# EAGLE library part SLIDER (library SLIDER)
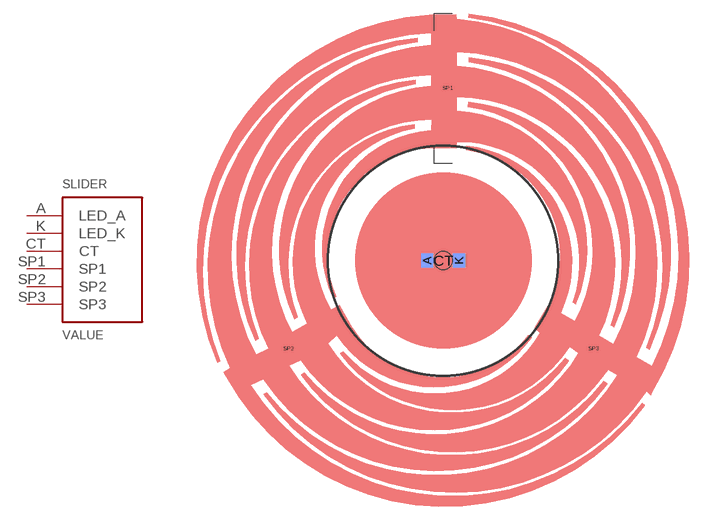
[diagram p0: symbol with the pads of SLIDER; footprint SLIDER]

Designator prefix SL

## SLIDER  [SLIDER]
A  LED_A  pwr
CT  CT
K  LED_K  pwr
SP1  SP1
SP2  SP2
SP3  SP3

## Footprint SLIDER (pad centres in mm)
smd 1.4 x 1.6 bottom: A -1.8,0; K 1.8,0
smd 20 x 20: CT 0.03,0
smd 1.27 x 0.635: SP1 0.5,19.5; SP2 -17.5,-10; SP3 17,-10
hole 2 at 0,0